# Altium integrated library Analog Devices Data Converters Digital-to-Analog Converters.IntLib: 2231 symbols (part 140 of 181)
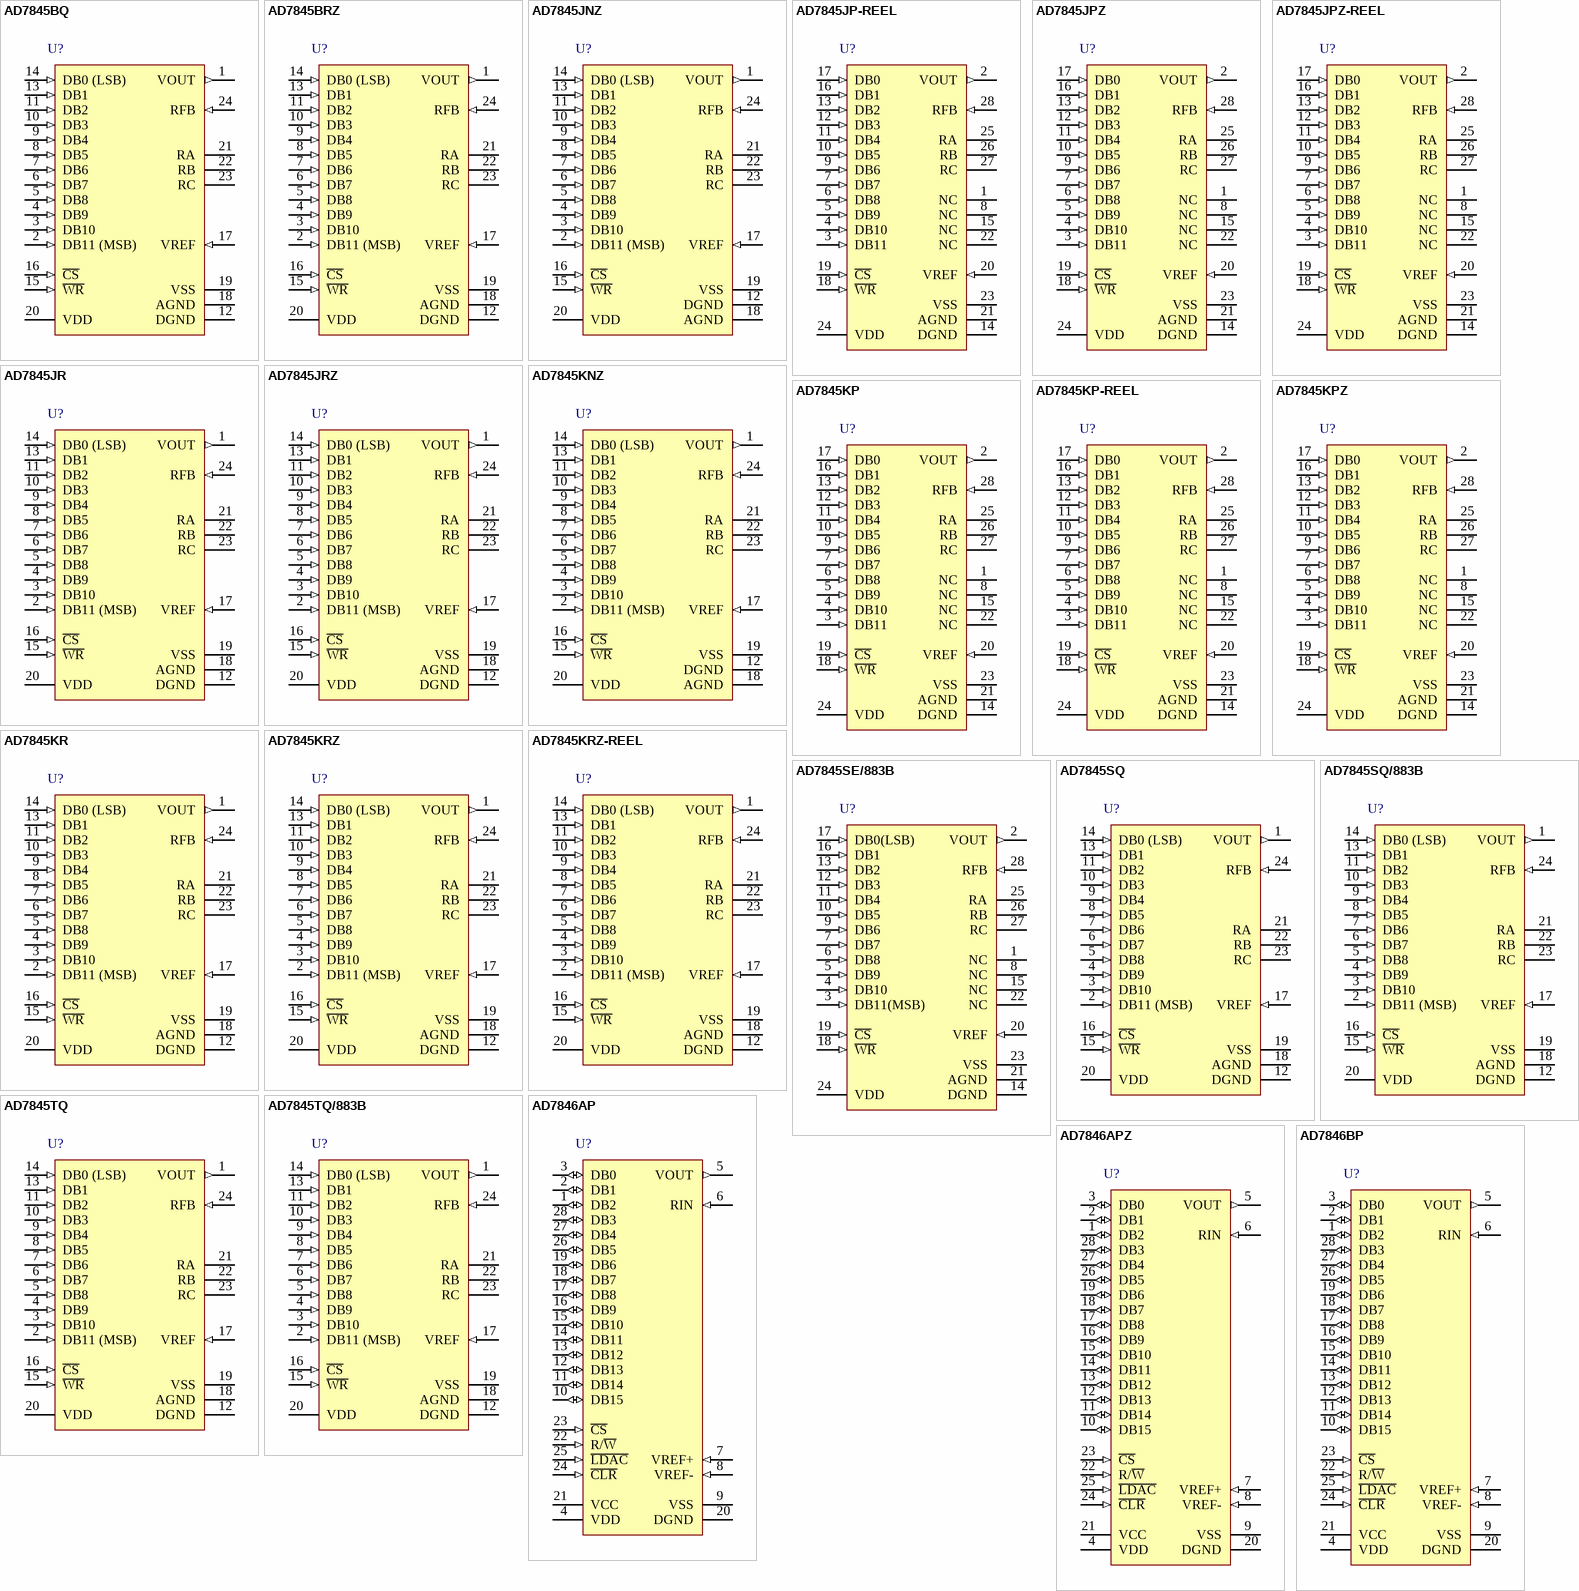
[diagram p253: symbols AD7845BQ to AD7846BP]

## AD7845JPZ
designator U?
Single 12-Bit LC2MOS Complete Digital-to-Analog Converter, 0 to +70 degC, P-28, Pb-Free, Tube; Generic Part Number: AD7845; Manufacturer: Analog Devices; PartNumber: AD7845JPZ; # DAC Outputs: 1; Max V+: 15.75V; Op Pwr Diss: 150mW; Resolution (Bits): 12; Settling Time: 5µs; Single Supply: No; DatasheetVersion: Rev.B; PackageVersion: 042508-A; PackageReference: P-28; PackageDescription: 28-Lead Plastic Leaded Chip Carrier [PLCC]; Supplier 1: Digi-Key; Supplier Part Number 1: AD7845JPZ-ND; Supplier 2: Newark; Supplier Part Number 2: 12M8951; Supplier 3: Mouser; Supplier Part Number 3: 584-AD7845JPZ; Packing: Tube; RoHS: Y; Mounting Technology: Surface Mount; Code_JEDEC: MO-047-AB; ComponentLink1Description: Manufacturer URL; ComponentLink1URL: http://www.analog.com/en/index.html; ComponentLink2Description: Datasheet; ComponentLink2URL: http://www.analog.com/static/imported-files/data_sheets/AD7845.pdf; ComponentLink3Description: Package Specification; ComponentLink3URL: http://www.analog.com/static/imported-files/packages/PKG_PDF/PLCC(P)/P_28.pdf; ComponentLink4Description: Product URL; ComponentLink4URL: http://www.analog.com/en/digital-to-analog-converters/da-converters/ad7845/products/product.html
footprint P-28_N (Leaded Chip Carrier, 28-Leads, Body 11.5x11.5mm, Pitch 1.27mm, IPC Medium Density)
footprint P-28_L (Leaded Chip Carrier, 28-Leads, Body 11.5x11.5mm, Pitch 1.27mm, IPC High Density)
footprint P-28_M (Leaded Chip Carrier, 28-Leads, Body 11.5x11.5mm, Pitch 1.27mm, IPC Low Density)
pins: 1 NC "No Connect", 2 VOUT (out) "Voltage Output Terminal", 3 DB11 (in) "Data Bit 11 (MSB)", 4 DB10 (in) "Data Bit 10", 5 DB9 (in) "Data Bit 9", 6 DB8 (in) "Data Bit 8", 7 DB7 (in) "Data Bit 7", 8 NC "No Connect", 9 DB6 (in) "Data Bit 6", 10 DB5 (in) "Data Bit 5", 11 DB4 (in) "Data Bit 4", 12 DB3 (in) "Data Bit 3", 13 DB2 (in) "Data Bit 2", 14 DGND (power) "Digital Ground. The metal lid on the ceramic package is connected to this pin", 15 NC "No Connect", 16 DB1 (in) "Data Bit 1", 17 DB0 (in) "Data Bit 0 (LSB)", 18 ~{WR} (in) "Write Input. Active low", 19 ~{CS} (in) "Chip Select Input. Active low", 20 VREF (in) "Reference Input Voltage which can be an ac or dc signal", 21 AGND (power) "Analog Ground. This is the reference point for external analog circuitry", 22 NC "No Connect", 23 VSS (power) "Negative power supply for the output amplifier (nominal -12 V to +15 V)", 24 VDD (power) "Positive power supply (nominal +12 V to +15 V)", 25 RA "Application resistor. RA = 4 RFB", 26 RB "Application resistor. RB = 2 RFB", 27 RC "Application resistor. RC = 2 RFB", 28 RFB (in) "Feedback resistor in the DAC. For normal operation this is connected to VOUT"

## AD7845JPZ-REEL
designator U?
Single 12-Bit LC2MOS Complete Digital-to-Analog Converter, 0 to +70 degC, P-28, Pb-Free, Reel; Generic Part Number: AD7845; Manufacturer: Analog Devices; PartNumber: AD7845JPZ-REEL; # DAC Outputs: 1; Max V+: 15.75V; Op Pwr Diss: 150mW; Resolution (Bits): 12; Settling Time: 5µs; Single Supply: No; DatasheetVersion: Rev.B; PackageVersion: 042508-A; PackageReference: P-28; PackageDescription: 28-Lead Plastic Leaded Chip Carrier [PLCC]; Supplier 1: Digi-Key; Supplier Part Number 1: AD7845JPZ-REEL-ND; Supplier 2: Newark; Supplier Part Number 2: 12M8952; Supplier 3: Mouser; Supplier Part Number 3: 584-AD7845JPZ-R; Packing: Reel; RoHS: Y; Mounting Technology: Surface Mount; Code_JEDEC: MO-047-AB; ComponentLink1Description: Manufacturer URL; ComponentLink1URL: http://www.analog.com/en/index.html; ComponentLink2Description: Datasheet; ComponentLink2URL: http://www.analog.com/static/imported-files/data_sheets/AD7845.pdf; ComponentLink3Description: Package Specification; ComponentLink3URL: http://www.analog.com/static/imported-files/packages/PKG_PDF/PLCC(P)/P_28.pdf; ComponentLink4Description: Product URL; ComponentLink4URL: http://www.analog.com/en/digital-to-analog-converters/da-converters/ad7845/products/product.html
footprint P-28_N (Leaded Chip Carrier, 28-Leads, Body 11.5x11.5mm, Pitch 1.27mm, IPC Medium Density)
footprint P-28_L (Leaded Chip Carrier, 28-Leads, Body 11.5x11.5mm, Pitch 1.27mm, IPC High Density)
footprint P-28_M (Leaded Chip Carrier, 28-Leads, Body 11.5x11.5mm, Pitch 1.27mm, IPC Low Density)
pins: 1 NC "No Connect", 2 VOUT (out) "Voltage Output Terminal", 3 DB11 (in) "Data Bit 11 (MSB)", 4 DB10 (in) "Data Bit 10", 5 DB9 (in) "Data Bit 9", 6 DB8 (in) "Data Bit 8", 7 DB7 (in) "Data Bit 7", 8 NC "No Connect", 9 DB6 (in) "Data Bit 6", 10 DB5 (in) "Data Bit 5", 11 DB4 (in) "Data Bit 4", 12 DB3 (in) "Data Bit 3", 13 DB2 (in) "Data Bit 2", 14 DGND (power) "Digital Ground. The metal lid on the ceramic package is connected to this pin", 15 NC "No Connect", 16 DB1 (in) "Data Bit 1", 17 DB0 (in) "Data Bit 0 (LSB)", 18 ~{WR} (in) "Write Input. Active low", 19 ~{CS} (in) "Chip Select Input. Active low", 20 VREF (in) "Reference Input Voltage which can be an ac or dc signal", 21 AGND (power) "Analog Ground. This is the reference point for external analog circuitry", 22 NC "No Connect", 23 VSS (power) "Negative power supply for the output amplifier (nominal -12 V to +15 V)", 24 VDD (power) "Positive power supply (nominal +12 V to +15 V)", 25 RA "Application resistor. RA = 4 RFB", 26 RB "Application resistor. RB = 2 RFB", 27 RC "Application resistor. RC = 2 RFB", 28 RFB (in) "Feedback resistor in the DAC. For normal operation this is connected to VOUT"

## AD7845JR
designator U?
Single 12-Bit LC2MOS Complete Digital-to-Analog Converter, 0 to +70 degC, RW-24, Tube; Generic Part Number: AD7845; Manufacturer: Analog Devices; PartNumber: AD7845JR; # DAC Outputs: 1; Max V+: 15.75V; Op Pwr Diss: 150mW; Resolution (Bits): 12; Settling Time: 5µs; Single Supply: No; DatasheetVersion: Rev.B; PackageVersion: 060706-A; PackageReference: RW-24; PackageDescription: 24-Lead Standard Small Outline Package [SOIC_W]; Supplier 1: Digi-Key; Supplier Part Number 1: AD7845JR-ND; Supplier 2: Mouser; Supplier Part Number 2: 584-AD7845JR; Packing: Tube; RoHS: N; Mounting Technology: Surface Mount; Code_JEDEC: MS-013-AD; ComponentLink1Description: Manufacturer URL; ComponentLink1URL: http://www.analog.com/en/index.html; ComponentLink2Description: Datasheet; ComponentLink2URL: http://www.analog.com/static/imported-files/data_sheets/AD7845.pdf; ComponentLink3Description: Package Specification; ComponentLink3URL: http://www.analog.com/static/imported-files/packages/33665150946139RW_24.pdf; ComponentLink4Description: Product URL; ComponentLink4URL: http://www.analog.com/en/digital-to-analog-converters/da-converters/ad7845/products/product.html
footprint RW-24_N (SOIC, 24-Leads, Body 15.4x7.5mm, Pitch 1.27mm, IPC Medium Density)
footprint RW-24_L (SOIC, 24-Leads, Body 15.4x7.5mm, Pitch 1.27mm, IPC High Density)
footprint RW-24_M (SOIC, 24-Leads, Body 15.4x7.5mm, Pitch 1.27mm, IPC Low Density)
pins: 1 VOUT (out) "Voltage Output Terminal", 2 DB11 (MSB) (in) "Data Bit 11 (MSB)", 3 DB10 (in) "Data Bit 10", 4 DB9 (in) "Data Bit 9", 5 DB8 (in) "Data Bit 8", 6 DB7 (in) "Data Bit 7", 7 DB6 (in) "Data Bit 6", 8 DB5 (in) "Data Bit 5", 9 DB4 (in) "Data Bit 4", 10 DB3 (in) "Data Bit 3", 11 DB2 (in) "Data Bit 2", 12 DGND (power) "Digital Ground. The metal lid on the ceramic package is connected to this pin", 13 DB1 (in) "Data Bit 1", 14 DB0 (LSB) (in) "Data Bit 0 (LSB)", 15 ~{WR} (in) "Write Input. Active low", 16 ~{CS} (in) "Chip Select Input. Active low", 17 VREF (in) "Reference Input Voltage which can be an ac or dc signal", 18 AGND (power) "Analog Ground. This is the reference point for external analog circuitry", 19 VSS (power) "Negative power supply for the output amplifier (nominal -12 V to +15 V)", 20 VDD (power) "Positive power supply (nominal +12 V to +15 V)", 21 RA "Application resistor. RA = 4 RFB", 22 RB "Application resistor. RB = 2 RFB", 23 RC "Application resistor. RC = 2 RFB", 24 RFB (in) "Feedback resistor in the DAC. For normal operation this is connected to VOUT"

## AD7845JRZ
designator U?
Single 12-Bit LC2MOS Complete Digital-to-Analog Converter, 0 to +70 degC, RW-24, Pb-Free, Tube; Generic Part Number: AD7845; Manufacturer: Analog Devices; PartNumber: AD7845JRZ; # DAC Outputs: 1; Max V+: 15.75V; Op Pwr Diss: 150mW; Resolution (Bits): 12; Settling Time: 5µs; Single Supply: No; DatasheetVersion: Rev.B; PackageVersion: 060706-A; PackageReference: RW-24; PackageDescription: 24-Lead Standard Small Outline Package [SOIC_W]; Supplier 1: Digi-Key; Supplier Part Number 1: AD7845JRZ-ND; Supplier 2: Newark; Supplier Part Number 2: 59K5652; Supplier 3: Mouser; Supplier Part Number 3: 584-AD7845JRZ; Packing: Tube; RoHS: Y; Mounting Technology: Surface Mount; Code_JEDEC: MS-013-AD; ComponentLink1Description: Manufacturer URL; ComponentLink1URL: http://www.analog.com/en/index.html; ComponentLink2Description: Datasheet; ComponentLink2URL: http://www.analog.com/static/imported-files/data_sheets/AD7845.pdf; ComponentLink3Description: Package Specification; ComponentLink3URL: http://www.analog.com/static/imported-files/packages/33665150946139RW_24.pdf; ComponentLink4Description: Product URL; ComponentLink4URL: http://www.analog.com/en/digital-to-analog-converters/da-converters/ad7845/products/product.html
footprint RW-24_N (SOIC, 24-Leads, Body 15.4x7.5mm, Pitch 1.27mm, IPC Medium Density)
footprint RW-24_L (SOIC, 24-Leads, Body 15.4x7.5mm, Pitch 1.27mm, IPC High Density)
footprint RW-24_M (SOIC, 24-Leads, Body 15.4x7.5mm, Pitch 1.27mm, IPC Low Density)
pins: 1 VOUT (out) "Voltage Output Terminal", 2 DB11 (MSB) (in) "Data Bit 11 (MSB)", 3 DB10 (in) "Data Bit 10", 4 DB9 (in) "Data Bit 9", 5 DB8 (in) "Data Bit 8", 6 DB7 (in) "Data Bit 7", 7 DB6 (in) "Data Bit 6", 8 DB5 (in) "Data Bit 5", 9 DB4 (in) "Data Bit 4", 10 DB3 (in) "Data Bit 3", 11 DB2 (in) "Data Bit 2", 12 DGND (power) "Digital Ground. The metal lid on the ceramic package is connected to this pin", 13 DB1 (in) "Data Bit 1", 14 DB0 (LSB) (in) "Data Bit 0 (LSB)", 15 ~{WR} (in) "Write Input. Active low", 16 ~{CS} (in) "Chip Select Input. Active low", 17 VREF (in) "Reference Input Voltage which can be an ac or dc signal", 18 AGND (power) "Analog Ground. This is the reference point for external analog circuitry", 19 VSS (power) "Negative power supply for the output amplifier (nominal -12 V to +15 V)", 20 VDD (power) "Positive power supply (nominal +12 V to +15 V)", 21 RA "Application resistor. RA = 4 RFB", 22 RB "Application resistor. RB = 2 RFB", 23 RC "Application resistor. RC = 2 RFB", 24 RFB (in) "Feedback resistor in the DAC. For normal operation this is connected to VOUT"

## AD7845KNZ
designator U?
Single 12-Bit LC2MOS Complete Digital-to-Analog Converter, 0 to +70 degC, N-24-1, Pb-Free, Tube; Generic Part Number: AD7845; Manufacturer: Analog Devices; PartNumber: AD7845KNZ; # DAC Outputs: 1; Max V+: 15.75V; Op Pwr Diss: 150mW; Resolution (Bits): 12; Settling Time: 5µs; Single Supply: No; DatasheetVersion: Rev.B; PackageVersion: 071006-A; PackageReference: N-24-1; PackageDescription: 24-Lead Plastic Dual In-Line Package [PDIP] Narrow Body; Supplier 1: Digi-Key; Supplier Part Number 1: AD7845KNZ-ND; Supplier 2: Mouser; Supplier Part Number 2: 584-AD7845KNZ; Packing: Tube; RoHS: Y; Mounting Technology: Through Hole; Code_JEDEC: MS-001; ComponentLink1Description: Manufacturer URL; ComponentLink1URL: http://www.analog.com/en/index.html; ComponentLink2Description: Datasheet; ComponentLink2URL: http://www.analog.com/static/imported-files/data_sheets/AD7845.pdf; ComponentLink3Description: Package Specification; ComponentLink3URL: http://www.analog.com/static/imported-files/packages/50726455539629N_24_1.pdf; ComponentLink4Description: Product URL; ComponentLink4URL: http://www.analog.com/en/digital-to-analog-converters/da-converters/ad7845/products/product.html
footprint N-24-1 (DIP, 24-Leads, Row Spacing 7.62mm, Pitch 2.54mm, Body 31.9x6.6mm)
pins: 1 VOUT (out) "Voltage Output Terminal", 2 DB11 (MSB) (in) "Data Bit 11 (MSB)", 3 DB10 (in) "Data Bit 10", 4 DB9 (in) "Data Bit 9", 5 DB8 (in) "Data Bit 8", 6 DB7 (in) "Data Bit 7", 7 DB6 (in) "Data Bit 6", 8 DB5 (in) "Data Bit 5", 9 DB4 (in) "Data Bit 4", 10 DB3 (in) "Data Bit 3", 11 DB2 (in) "Data Bit 2", 12 DGND (power) "Digital Ground. The metal lid on the ceramic package is connected to this pin", 13 DB1 (in) "Data Bit 1", 14 DB0 (LSB) (in) "Data Bit 0 (LSB)", 15 ~{WR} (in) "Write Input. Active low", 16 ~{CS} (in) "Chip Select Input. Active low", 17 VREF (in) "Reference Input Voltage which can be an ac or dc signal", 18 AGND (power) "Analog Ground. This is the reference point for external analog circuitry", 19 VSS (power) "Negative power supply for the output amplifier (nominal -12 V to +15 V)", 20 VDD (power) "Positive power supply (nominal +12 V to +15 V)", 21 RA "Application resistor. RA = 4 RFB", 22 RB "Application resistor. RB = 2 RFB", 23 RC "Application resistor. RC = 2 RFB", 24 RFB (in) "Feedback resistor in the DAC. For normal operation this is connected to VOUT"

## AD7845KP
designator U?
Single 12-Bit LC2MOS Complete Digital-to-Analog Converter, 0 to +70 degC, P-28, Tube; Generic Part Number: AD7845; Manufacturer: Analog Devices; PartNumber: AD7845KP; # DAC Outputs: 1; Max V+: 15.75V; Op Pwr Diss: 150mW; Resolution (Bits): 12; Settling Time: 5µs; Single Supply: No; DatasheetVersion: Rev.B; PackageVersion: 042508-A; PackageReference: P-28; PackageDescription: 28-Lead Plastic Leaded Chip Carrier [PLCC]; Supplier 1: Digi-Key; Supplier Part Number 1: AD7845KP-ND; Supplier 2: Newark; Supplier Part Number 2: 66F4924; Supplier 3: Mouser; Supplier Part Number 3: N/A; Packing: Tube; RoHS: N; Mounting Technology: Surface Mount; Code_JEDEC: MO-047-AB; ComponentLink1Description: Manufacturer URL; ComponentLink1URL: http://www.analog.com/en/index.html; ComponentLink2Description: Datasheet; ComponentLink2URL: http://www.analog.com/static/imported-files/data_sheets/AD7845.pdf; ComponentLink3Description: Package Specification; ComponentLink3URL: http://www.analog.com/static/imported-files/packages/PKG_PDF/PLCC(P)/P_28.pdf; ComponentLink4Description: Product URL; ComponentLink4URL: http://www.analog.com/en/digital-to-analog-converters/da-converters/ad7845/products/product.html
footprint P-28_N (Leaded Chip Carrier, 28-Leads, Body 11.5x11.5mm, Pitch 1.27mm, IPC Medium Density)
footprint P-28_L (Leaded Chip Carrier, 28-Leads, Body 11.5x11.5mm, Pitch 1.27mm, IPC High Density)
footprint P-28_M (Leaded Chip Carrier, 28-Leads, Body 11.5x11.5mm, Pitch 1.27mm, IPC Low Density)
pins: 1 NC "No Connect", 2 VOUT (out) "Voltage Output Terminal", 3 DB11 (in) "Data Bit 11 (MSB)", 4 DB10 (in) "Data Bit 10", 5 DB9 (in) "Data Bit 9", 6 DB8 (in) "Data Bit 8", 7 DB7 (in) "Data Bit 7", 8 NC "No Connect", 9 DB6 (in) "Data Bit 6", 10 DB5 (in) "Data Bit 5", 11 DB4 (in) "Data Bit 4", 12 DB3 (in) "Data Bit 3", 13 DB2 (in) "Data Bit 2", 14 DGND (power) "Digital Ground. The metal lid on the ceramic package is connected to this pin", 15 NC "No Connect", 16 DB1 (in) "Data Bit 1", 17 DB0 (in) "Data Bit 0 (LSB)", 18 ~{WR} (in) "Write Input. Active low", 19 ~{CS} (in) "Chip Select Input. Active low", 20 VREF (in) "Reference Input Voltage which can be an ac or dc signal", 21 AGND (power) "Analog Ground. This is the reference point for external analog circuitry", 22 NC "No Connect", 23 VSS (power) "Negative power supply for the output amplifier (nominal -12 V to +15 V)", 24 VDD (power) "Positive power supply (nominal +12 V to +15 V)", 25 RA "Application resistor. RA = 4 RFB", 26 RB "Application resistor. RB = 2 RFB", 27 RC "Application resistor. RC = 2 RFB", 28 RFB (in) "Feedback resistor in the DAC. For normal operation this is connected to VOUT"

## AD7845KP-REEL
designator U?
Single 12-Bit LC2MOS Complete Digital-to-Analog Converter, 0 to +70 degC, P-28, Reel; Generic Part Number: AD7845; Manufacturer: Analog Devices; PartNumber: AD7845KP-REEL; # DAC Outputs: 1; Max V+: 15.75V; Op Pwr Diss: 150mW; Resolution (Bits): 12; Settling Time: 5µs; Single Supply: No; DatasheetVersion: Rev.B; PackageVersion: 042508-A; PackageReference: P-28; PackageDescription: 28-Lead Plastic Leaded Chip Carrier [PLCC]; Supplier 1: Mouser; Supplier Part Number 1: N/A; Packing: Reel; RoHS: N; Mounting Technology: Surface Mount; Code_JEDEC: MO-047-AB; ComponentLink1Description: Manufacturer URL; ComponentLink1URL: http://www.analog.com/en/index.html; ComponentLink2Description: Datasheet; ComponentLink2URL: http://www.analog.com/static/imported-files/data_sheets/AD7845.pdf; ComponentLink3Description: Package Specification; ComponentLink3URL: http://www.analog.com/static/imported-files/packages/PKG_PDF/PLCC(P)/P_28.pdf; ComponentLink4Description: Product URL; ComponentLink4URL: http://www.analog.com/en/digital-to-analog-converters/da-converters/ad7845/products/product.html
footprint P-28_N (Leaded Chip Carrier, 28-Leads, Body 11.5x11.5mm, Pitch 1.27mm, IPC Medium Density)
footprint P-28_L (Leaded Chip Carrier, 28-Leads, Body 11.5x11.5mm, Pitch 1.27mm, IPC High Density)
footprint P-28_M (Leaded Chip Carrier, 28-Leads, Body 11.5x11.5mm, Pitch 1.27mm, IPC Low Density)
pins: 1 NC "No Connect", 2 VOUT (out) "Voltage Output Terminal", 3 DB11 (in) "Data Bit 11 (MSB)", 4 DB10 (in) "Data Bit 10", 5 DB9 (in) "Data Bit 9", 6 DB8 (in) "Data Bit 8", 7 DB7 (in) "Data Bit 7", 8 NC "No Connect", 9 DB6 (in) "Data Bit 6", 10 DB5 (in) "Data Bit 5", 11 DB4 (in) "Data Bit 4", 12 DB3 (in) "Data Bit 3", 13 DB2 (in) "Data Bit 2", 14 DGND (power) "Digital Ground. The metal lid on the ceramic package is connected to this pin", 15 NC "No Connect", 16 DB1 (in) "Data Bit 1", 17 DB0 (in) "Data Bit 0 (LSB)", 18 ~{WR} (in) "Write Input. Active low", 19 ~{CS} (in) "Chip Select Input. Active low", 20 VREF (in) "Reference Input Voltage which can be an ac or dc signal", 21 AGND (power) "Analog Ground. This is the reference point for external analog circuitry", 22 NC "No Connect", 23 VSS (power) "Negative power supply for the output amplifier (nominal -12 V to +15 V)", 24 VDD (power) "Positive power supply (nominal +12 V to +15 V)", 25 RA "Application resistor. RA = 4 RFB", 26 RB "Application resistor. RB = 2 RFB", 27 RC "Application resistor. RC = 2 RFB", 28 RFB (in) "Feedback resistor in the DAC. For normal operation this is connected to VOUT"

## AD7845KPZ
designator U?
Single 12-Bit LC2MOS Complete Digital-to-Analog Converter, 0 to +70 degC, P-28, Pb-Free, Tube; Generic Part Number: AD7845; Manufacturer: Analog Devices; PartNumber: AD7845KPZ; # DAC Outputs: 1; Max V+: 15.75V; Op Pwr Diss: 150mW; Resolution (Bits): 12; Settling Time: 5µs; Single Supply: No; DatasheetVersion: Rev.B; PackageVersion: 042508-A; PackageReference: P-28; PackageDescription: 28-Lead Plastic Leaded Chip Carrier [PLCC]; Supplier 1: Digi-Key; Supplier Part Number 1: AD7845KPZ-ND; Supplier 2: Mouser; Supplier Part Number 2: 584-AD7845KPZ; Packing: Tube; RoHS: Y; Mounting Technology: Surface Mount; Code_JEDEC: MO-047-AB; ComponentLink1Description: Manufacturer URL; ComponentLink1URL: http://www.analog.com/en/index.html; ComponentLink2Description: Datasheet; ComponentLink2URL: http://www.analog.com/static/imported-files/data_sheets/AD7845.pdf; ComponentLink3Description: Package Specification; ComponentLink3URL: http://www.analog.com/static/imported-files/packages/PKG_PDF/PLCC(P)/P_28.pdf; ComponentLink4Description: Product URL; ComponentLink4URL: http://www.analog.com/en/digital-to-analog-converters/da-converters/ad7845/products/product.html
footprint P-28_N (Leaded Chip Carrier, 28-Leads, Body 11.5x11.5mm, Pitch 1.27mm, IPC Medium Density)
footprint P-28_L (Leaded Chip Carrier, 28-Leads, Body 11.5x11.5mm, Pitch 1.27mm, IPC High Density)
footprint P-28_M (Leaded Chip Carrier, 28-Leads, Body 11.5x11.5mm, Pitch 1.27mm, IPC Low Density)
pins: 1 NC "No Connect", 2 VOUT (out) "Voltage Output Terminal", 3 DB11 (in) "Data Bit 11 (MSB)", 4 DB10 (in) "Data Bit 10", 5 DB9 (in) "Data Bit 9", 6 DB8 (in) "Data Bit 8", 7 DB7 (in) "Data Bit 7", 8 NC "No Connect", 9 DB6 (in) "Data Bit 6", 10 DB5 (in) "Data Bit 5", 11 DB4 (in) "Data Bit 4", 12 DB3 (in) "Data Bit 3", 13 DB2 (in) "Data Bit 2", 14 DGND (power) "Digital Ground. The metal lid on the ceramic package is connected to this pin", 15 NC "No Connect", 16 DB1 (in) "Data Bit 1", 17 DB0 (in) "Data Bit 0 (LSB)", 18 ~{WR} (in) "Write Input. Active low", 19 ~{CS} (in) "Chip Select Input. Active low", 20 VREF (in) "Reference Input Voltage which can be an ac or dc signal", 21 AGND (power) "Analog Ground. This is the reference point for external analog circuitry", 22 NC "No Connect", 23 VSS (power) "Negative power supply for the output amplifier (nominal -12 V to +15 V)", 24 VDD (power) "Positive power supply (nominal +12 V to +15 V)", 25 RA "Application resistor. RA = 4 RFB", 26 RB "Application resistor. RB = 2 RFB", 27 RC "Application resistor. RC = 2 RFB", 28 RFB (in) "Feedback resistor in the DAC. For normal operation this is connected to VOUT"

## AD7845KR
designator U?
Single 12-Bit LC2MOS Complete Digital-to-Analog Converter, 0 to +70 degC, RW-24, Tube; Generic Part Number: AD7845; Manufacturer: Analog Devices; PartNumber: AD7845KR; # DAC Outputs: 1; Max V+: 15.75V; Op Pwr Diss: 150mW; Resolution (Bits): 12; Settling Time: 5µs; Single Supply: No; DatasheetVersion: Rev.B; PackageVersion: 060706-A; PackageReference: RW-24; PackageDescription: 24-Lead Standard Small Outline Package [SOIC_W]; Supplier 1: Digi-Key; Supplier Part Number 1: AD7845KR-ND; Supplier 2: Mouser; Supplier Part Number 2: 584-AD7845KR; Packing: Tube; RoHS: N; Mounting Technology: Surface Mount; Code_JEDEC: MS-013-AD; ComponentLink1Description: Manufacturer URL; ComponentLink1URL: http://www.analog.com/en/index.html; ComponentLink2Description: Datasheet; ComponentLink2URL: http://www.analog.com/static/imported-files/data_sheets/AD7845.pdf; ComponentLink3Description: Package Specification; ComponentLink3URL: http://www.analog.com/static/imported-files/packages/33665150946139RW_24.pdf; ComponentLink4Description: Product URL; ComponentLink4URL: http://www.analog.com/en/digital-to-analog-converters/da-converters/ad7845/products/product.html
footprint RW-24_N (SOIC, 24-Leads, Body 15.4x7.5mm, Pitch 1.27mm, IPC Medium Density)
footprint RW-24_L (SOIC, 24-Leads, Body 15.4x7.5mm, Pitch 1.27mm, IPC High Density)
footprint RW-24_M (SOIC, 24-Leads, Body 15.4x7.5mm, Pitch 1.27mm, IPC Low Density)
pins: 1 VOUT (out) "Voltage Output Terminal", 2 DB11 (MSB) (in) "Data Bit 11 (MSB)", 3 DB10 (in) "Data Bit 10", 4 DB9 (in) "Data Bit 9", 5 DB8 (in) "Data Bit 8", 6 DB7 (in) "Data Bit 7", 7 DB6 (in) "Data Bit 6", 8 DB5 (in) "Data Bit 5", 9 DB4 (in) "Data Bit 4", 10 DB3 (in) "Data Bit 3", 11 DB2 (in) "Data Bit 2", 12 DGND (power) "Digital Ground. The metal lid on the ceramic package is connected to this pin", 13 DB1 (in) "Data Bit 1", 14 DB0 (LSB) (in) "Data Bit 0 (LSB)", 15 ~{WR} (in) "Write Input. Active low", 16 ~{CS} (in) "Chip Select Input. Active low", 17 VREF (in) "Reference Input Voltage which can be an ac or dc signal", 18 AGND (power) "Analog Ground. This is the reference point for external analog circuitry", 19 VSS (power) "Negative power supply for the output amplifier (nominal -12 V to +15 V)", 20 VDD (power) "Positive power supply (nominal +12 V to +15 V)", 21 RA "Application resistor. RA = 4 RFB", 22 RB "Application resistor. RB = 2 RFB", 23 RC "Application resistor. RC = 2 RFB", 24 RFB (in) "Feedback resistor in the DAC. For normal operation this is connected to VOUT"

## AD7845KRZ
designator U?
Single 12-Bit LC2MOS Complete Digital-to-Analog Converter, 0 to +70 degC, RW-24, Pb-Free, Tube; Generic Part Number: AD7845; Manufacturer: Analog Devices; PartNumber: AD7845KRZ; # DAC Outputs: 1; Max V+: 15.75V; Op Pwr Diss: 150mW; Resolution (Bits): 12; Settling Time: 5µs; Single Supply: No; DatasheetVersion: Rev.B; PackageVersion: 060706-A; PackageReference: RW-24; PackageDescription: 24-Lead Standard Small Outline Package [SOIC_W]; Supplier 1: Digi-Key; Supplier Part Number 1: AD7845KRZ-ND; Supplier 2: Mouser; Supplier Part Number 2: 584-AD7845KRZ; Packing: Tube; RoHS: Y; Mounting Technology: Surface Mount; Code_JEDEC: MS-013-AD; ComponentLink1Description: Manufacturer URL; ComponentLink1URL: http://www.analog.com/en/index.html; ComponentLink2Description: Datasheet; ComponentLink2URL: http://www.analog.com/static/imported-files/data_sheets/AD7845.pdf; ComponentLink3Description: Package Specification; ComponentLink3URL: http://www.analog.com/static/imported-files/packages/33665150946139RW_24.pdf; ComponentLink4Description: Product URL; ComponentLink4URL: http://www.analog.com/en/digital-to-analog-converters/da-converters/ad7845/products/product.html
footprint RW-24_N (SOIC, 24-Leads, Body 15.4x7.5mm, Pitch 1.27mm, IPC Medium Density)
footprint RW-24_L (SOIC, 24-Leads, Body 15.4x7.5mm, Pitch 1.27mm, IPC High Density)
footprint RW-24_M (SOIC, 24-Leads, Body 15.4x7.5mm, Pitch 1.27mm, IPC Low Density)
pins: 1 VOUT (out) "Voltage Output Terminal", 2 DB11 (MSB) (in) "Data Bit 11 (MSB)", 3 DB10 (in) "Data Bit 10", 4 DB9 (in) "Data Bit 9", 5 DB8 (in) "Data Bit 8", 6 DB7 (in) "Data Bit 7", 7 DB6 (in) "Data Bit 6", 8 DB5 (in) "Data Bit 5", 9 DB4 (in) "Data Bit 4", 10 DB3 (in) "Data Bit 3", 11 DB2 (in) "Data Bit 2", 12 DGND (power) "Digital Ground. The metal lid on the ceramic package is connected to this pin", 13 DB1 (in) "Data Bit 1", 14 DB0 (LSB) (in) "Data Bit 0 (LSB)", 15 ~{WR} (in) "Write Input. Active low", 16 ~{CS} (in) "Chip Select Input. Active low", 17 VREF (in) "Reference Input Voltage which can be an ac or dc signal", 18 AGND (power) "Analog Ground. This is the reference point for external analog circuitry", 19 VSS (power) "Negative power supply for the output amplifier (nominal -12 V to +15 V)", 20 VDD (power) "Positive power supply (nominal +12 V to +15 V)", 21 RA "Application resistor. RA = 4 RFB", 22 RB "Application resistor. RB = 2 RFB", 23 RC "Application resistor. RC = 2 RFB", 24 RFB (in) "Feedback resistor in the DAC. For normal operation this is connected to VOUT"

## AD7845KRZ-REEL
designator U?
Single 12-Bit LC2MOS Complete Digital-to-Analog Converter, 0 to +70 degC, RW-24, Pb-Free, Reel; Generic Part Number: AD7845; Manufacturer: Analog Devices; PartNumber: AD7845KRZ-REEL; # DAC Outputs: 1; Max V+: 15.75V; Op Pwr Diss: 150mW; Resolution (Bits): 12; Settling Time: 5µs; Single Supply: No; DatasheetVersion: Rev.B; PackageVersion: 060706-A; PackageReference: RW-24; PackageDescription: 24-Lead Standard Small Outline Package [SOIC_W]; Supplier 1: Digi-Key; Supplier Part Number 1: AD7845KRZ-REEL-ND; Supplier 2: Mouser; Supplier Part Number 2: 584-AD7845KRZ-R; Packing: Reel; RoHS: Y; Mounting Technology: Surface Mount; Code_JEDEC: MS-013-AD; ComponentLink1Description: Manufacturer URL; ComponentLink1URL: http://www.analog.com/en/index.html; ComponentLink2Description: Datasheet; ComponentLink2URL: http://www.analog.com/static/imported-files/data_sheets/AD7845.pdf; ComponentLink3Description: Package Specification; ComponentLink3URL: http://www.analog.com/static/imported-files/packages/33665150946139RW_24.pdf; ComponentLink4Description: Product URL; ComponentLink4URL: http://www.analog.com/en/digital-to-analog-converters/da-converters/ad7845/products/product.html
footprint RW-24_N (SOIC, 24-Leads, Body 15.4x7.5mm, Pitch 1.27mm, IPC Medium Density)
footprint RW-24_L (SOIC, 24-Leads, Body 15.4x7.5mm, Pitch 1.27mm, IPC High Density)
footprint RW-24_M (SOIC, 24-Leads, Body 15.4x7.5mm, Pitch 1.27mm, IPC Low Density)
pins: 1 VOUT (out) "Voltage Output Terminal", 2 DB11 (MSB) (in) "Data Bit 11 (MSB)", 3 DB10 (in) "Data Bit 10", 4 DB9 (in) "Data Bit 9", 5 DB8 (in) "Data Bit 8", 6 DB7 (in) "Data Bit 7", 7 DB6 (in) "Data Bit 6", 8 DB5 (in) "Data Bit 5", 9 DB4 (in) "Data Bit 4", 10 DB3 (in) "Data Bit 3", 11 DB2 (in) "Data Bit 2", 12 DGND (power) "Digital Ground. The metal lid on the ceramic package is connected to this pin", 13 DB1 (in) "Data Bit 1", 14 DB0 (LSB) (in) "Data Bit 0 (LSB)", 15 ~{WR} (in) "Write Input. Active low", 16 ~{CS} (in) "Chip Select Input. Active low", 17 VREF (in) "Reference Input Voltage which can be an ac or dc signal", 18 AGND (power) "Analog Ground. This is the reference point for external analog circuitry", 19 VSS (power) "Negative power supply for the output amplifier (nominal -12 V to +15 V)", 20 VDD (power) "Positive power supply (nominal +12 V to +15 V)", 21 RA "Application resistor. RA = 4 RFB", 22 RB "Application resistor. RB = 2 RFB", 23 RC "Application resistor. RC = 2 RFB", 24 RFB (in) "Feedback resistor in the DAC. For normal operation this is connected to VOUT"

## AD7845SE/883B
designator U?
Single 12-Bit LC2MOS Complete Digital-to-Analog Converter, -55 to +125 degC, E-28-1, Tube; Generic Part Number: AD7845; Manufacturer: Analog Devices; PartNumber: AD7845SE/883B; # DAC Outputs: 1; Max V+: 15.75V; Op Pwr Diss: 150mW; Resolution (Bits): 12; Settling Time: 5µs; Single Supply: No; DatasheetVersion: Rev.B; PackageVersion: 022106-A; PackageReference: E-28-1; PackageDescription: 28-Terminal Ceramic Leadless Chip Carrier [LCC]; Supplier 1: Mouser; Supplier Part Number 1: 584-AD7845SE883B; Packing: Tube; RoHS: N; Mounting Technology: Surface Mount; ComponentLink1Description: Manufacturer URL; ComponentLink1URL: http://www.analog.com/en/index.html; ComponentLink2Description: Datasheet; ComponentLink2URL: http://www.analog.com/static/imported-files/data_sheets/AD7845.pdf; ComponentLink3Description: Package Specification; ComponentLink3URL: http://www.analog.com/static/imported-files/packages/PKG_PDF/LCC(E)/E_28_1.pdf; ComponentLink4Description: Product URL; ComponentLink4URL: http://www.analog.com/en/digital-to-analog-converters/da-converters/ad7845/products/product.html
footprint E-28-1_N (Leadless Chip Carrier, 28-Leads, Body 11.4x11.4mm, Pitch 1.27mm, IPC Medium Density)
footprint E-28-1_L (Leadless Chip Carrier, 28-Leads, Body 11.4x11.4mm, Pitch 1.27mm, IPC High Density)
footprint E-28-1_M (Leadless Chip Carrier, 28-Leads, Body 11.4x11.4mm, Pitch 1.27mm, IPC Low Density)
pins: 1 NC, 2 VOUT (out), 3 DB11(MSB) (in), 4 DB10 (in), 5 DB9 (in), 6 DB8 (in), 7 DB7 (in), 8 NC, 9 DB6 (in), 10 DB5 (in), 11 DB4 (in), 12 DB3 (in), 13 DB2 (in), 14 DGND (power), 15 NC, 16 DB1 (in), 17 DB0(LSB) (in), 18 ~{WR} (in), 19 ~{CS} (in), 20 VREF (in), 21 AGND (power), 22 NC, 23 VSS (power), 24 VDD (power), 25 RA, 26 RB, 27 RC, 28 RFB (in)

## AD7845SQ
designator U?
Single 12-Bit LC2MOS Complete Digital-to-Analog Converter, -55 to +125 degC, Q-24-1, Tube; Generic Part Number: AD7845; Manufacturer: Analog Devices; PartNumber: AD7845SQ; # DAC Outputs: 1; Max V+: 15.75V; Op Pwr Diss: 150mW; Resolution (Bits): 12; Settling Time: 5µs; Single Supply: No; DatasheetVersion: Rev.B; PackageVersion: 100808-A; PackageReference: Q-24-1; PackageDescription: 24-Lead Ceramic Dual In-Line Package [CERDIP]; Supplier 1: Digi-Key; Supplier Part Number 1: AD7845SQ-ND; Supplier 2: Newark; Supplier Part Number 2: 66F4926; Supplier 3: Mouser; Supplier Part Number 3: 584-AD7845SQ; Packing: Tube; RoHS: N; Mounting Technology: Through Hole; ComponentLink1Description: Manufacturer URL; ComponentLink1URL: http://www.analog.com/en/index.html; ComponentLink2Description: Datasheet; ComponentLink2URL: http://www.analog.com/static/imported-files/data_sheets/AD7845.pdf; ComponentLink3Description: Package Specification; ComponentLink3URL: http://www.analog.com/static/imported-files/packages/PKG_PDF/CERDIP(Q)/Q_24_1.pdf; ComponentLink4Description: Product URL; ComponentLink4URL: http://www.analog.com/en/digital-to-analog-converters/da-converters/ad7845/products/product.html
footprint Q-24-1 (DIP, 24-Leads, Row Spacing 7.62mm, Pitch 2.54mm, Body 31.9x6.7mm)
pins: 1 VOUT (out) "Voltage Output Terminal", 2 DB11 (MSB) (in) "Data Bit 11 (MSB)", 3 DB10 (in) "Data Bit 10", 4 DB9 (in) "Data Bit 9", 5 DB8 (in) "Data Bit 8", 6 DB7 (in) "Data Bit 7", 7 DB6 (in) "Data Bit 6", 8 DB5 (in) "Data Bit 5", 9 DB4 (in) "Data Bit 4", 10 DB3 (in) "Data Bit 3", 11 DB2 (in) "Data Bit 2", 12 DGND (power) "Digital Ground. The metal lid on the ceramic package is connected to this pin", 13 DB1 (in) "Data Bit 1", 14 DB0 (LSB) (in) "Data Bit 0 (LSB)", 15 ~{WR} (in) "Write Input. Active low", 16 ~{CS} (in) "Chip Select Input. Active low", 17 VREF (in) "Reference Input Voltage which can be an ac or dc signal", 18 AGND (power) "Analog Ground. This is the reference point for external analog circuitry", 19 VSS (power) "Negative power supply for the output amplifier (nominal -12 V to +15 V)", 20 VDD (power) "Positive power supply (nominal +12 V to +15 V)", 21 RA "Application resistor. RA = 4 RFB", 22 RB "Application resistor. RB = 2 RFB", 23 RC "Application resistor. RC = 2 RFB", 24 RFB (in) "Feedback resistor in the DAC. For normal operation this is connected to VOUT"

## AD7845SQ/883B
designator U?
Single 12-Bit LC2MOS Complete Digital-to-Analog Converter, -55 to +125 degC, Q-24-1, Tube; Generic Part Number: AD7845; Manufacturer: Analog Devices; PartNumber: AD7845SQ/883B; # DAC Outputs: 1; Max V+: 15.75V; Op Pwr Diss: 150mW; Resolution (Bits): 12; Settling Time: 5µs; Single Supply: No; DatasheetVersion: Rev.B; PackageVersion: 100808-A; PackageReference: Q-24-1; PackageDescription: 24-Lead Ceramic Dual In-Line Package [CERDIP]; Supplier 1: Mouser; Supplier Part Number 1: 584-AD7845SQ883B; Packing: Tube; RoHS: N; Mounting Technology: Through Hole; ComponentLink1Description: Manufacturer URL; ComponentLink1URL: http://www.analog.com/en/index.html; ComponentLink2Description: Datasheet; ComponentLink2URL: http://www.analog.com/static/imported-files/data_sheets/AD7845.pdf; ComponentLink3Description: Package Specification; ComponentLink3URL: http://www.analog.com/static/imported-files/packages/PKG_PDF/CERDIP(Q)/Q_24_1.pdf; ComponentLink4Description: Product URL; ComponentLink4URL: http://www.analog.com/en/digital-to-analog-converters/da-converters/ad7845/products/product.html
footprint Q-24-1 (DIP, 24-Leads, Row Spacing 7.62mm, Pitch 2.54mm, Body 31.9x6.7mm)
pins: 1 VOUT (out) "Voltage Output Terminal", 2 DB11 (MSB) (in) "Data Bit 11 (MSB)", 3 DB10 (in) "Data Bit 10", 4 DB9 (in) "Data Bit 9", 5 DB8 (in) "Data Bit 8", 6 DB7 (in) "Data Bit 7", 7 DB6 (in) "Data Bit 6", 8 DB5 (in) "Data Bit 5", 9 DB4 (in) "Data Bit 4", 10 DB3 (in) "Data Bit 3", 11 DB2 (in) "Data Bit 2", 12 DGND (power) "Digital Ground. The metal lid on the ceramic package is connected to this pin", 13 DB1 (in) "Data Bit 1", 14 DB0 (LSB) (in) "Data Bit 0 (LSB)", 15 ~{WR} (in) "Write Input. Active low", 16 ~{CS} (in) "Chip Select Input. Active low", 17 VREF (in) "Reference Input Voltage which can be an ac or dc signal", 18 AGND (power) "Analog Ground. This is the reference point for external analog circuitry", 19 VSS (power) "Negative power supply for the output amplifier (nominal -12 V to +15 V)", 20 VDD (power) "Positive power supply (nominal +12 V to +15 V)", 21 RA "Application resistor. RA = 4 RFB", 22 RB "Application resistor. RB = 2 RFB", 23 RC "Application resistor. RC = 2 RFB", 24 RFB (in) "Feedback resistor in the DAC. For normal operation this is connected to VOUT"

## AD7845TQ
designator U?
Single 12-Bit LC2MOS Complete Digital-to-Analog Converter, -55 to +125 degC, Q-24-1, Tube; Generic Part Number: AD7845; Manufacturer: Analog Devices; PartNumber: AD7845TQ; # DAC Outputs: 1; Max V+: 15.75V; Op Pwr Diss: 150mW; Resolution (Bits): 12; Settling Time: 5µs; Single Supply: No; DatasheetVersion: Rev.B; PackageVersion: 100808-A; PackageReference: Q-24-1; PackageDescription: 24-Lead Ceramic Dual In-Line Package [CERDIP]; Supplier 1: Digi-Key; Supplier Part Number 1: AD7845TQ-ND; Supplier 2: Mouser; Supplier Part Number 2: 584-AD7845TQ; Packing: Tube; RoHS: N; Mounting Technology: Through Hole; ComponentLink1Description: Manufacturer URL; ComponentLink1URL: http://www.analog.com/en/index.html; ComponentLink2Description: Datasheet; ComponentLink2URL: http://www.analog.com/static/imported-files/data_sheets/AD7845.pdf; ComponentLink3Description: Package Specification; ComponentLink3URL: http://www.analog.com/static/imported-files/packages/PKG_PDF/CERDIP(Q)/Q_24_1.pdf; ComponentLink4Description: Product URL; ComponentLink4URL: http://www.analog.com/en/digital-to-analog-converters/da-converters/ad7845/products/product.html
footprint Q-24-1 (DIP, 24-Leads, Row Spacing 7.62mm, Pitch 2.54mm, Body 31.9x6.7mm)
pins: 1 VOUT (out) "Voltage Output Terminal", 2 DB11 (MSB) (in) "Data Bit 11 (MSB)", 3 DB10 (in) "Data Bit 10", 4 DB9 (in) "Data Bit 9", 5 DB8 (in) "Data Bit 8", 6 DB7 (in) "Data Bit 7", 7 DB6 (in) "Data Bit 6", 8 DB5 (in) "Data Bit 5", 9 DB4 (in) "Data Bit 4", 10 DB3 (in) "Data Bit 3", 11 DB2 (in) "Data Bit 2", 12 DGND (power) "Digital Ground. The metal lid on the ceramic package is connected to this pin", 13 DB1 (in) "Data Bit 1", 14 DB0 (LSB) (in) "Data Bit 0 (LSB)", 15 ~{WR} (in) "Write Input. Active low", 16 ~{CS} (in) "Chip Select Input. Active low", 17 VREF (in) "Reference Input Voltage which can be an ac or dc signal", 18 AGND (power) "Analog Ground. This is the reference point for external analog circuitry", 19 VSS (power) "Negative power supply for the output amplifier (nominal -12 V to +15 V)", 20 VDD (power) "Positive power supply (nominal +12 V to +15 V)", 21 RA "Application resistor. RA = 4 RFB", 22 RB "Application resistor. RB = 2 RFB", 23 RC "Application resistor. RC = 2 RFB", 24 RFB (in) "Feedback resistor in the DAC. For normal operation this is connected to VOUT"

## AD7845TQ/883B
designator U?
Single 12-Bit LC2MOS Complete Digital-to-Analog Converter, -55 to +125 degC, Q-24-1, Tube; Generic Part Number: AD7845; Manufacturer: Analog Devices; PartNumber: AD7845TQ/883B; # DAC Outputs: 1; Max V+: 15.75V; Op Pwr Diss: 150mW; Resolution (Bits): 12; Settling Time: 5µs; Single Supply: No; DatasheetVersion: Rev.B; PackageVersion: 100808-A; PackageReference: Q-24-1; PackageDescription: 24-Lead Ceramic Dual In-Line Package [CERDIP]; Supplier 1: Mouser; Supplier Part Number 1: 584-AD7845TQ883B; Packing: Tube; RoHS: N; Mounting Technology: Through Hole; ComponentLink1Description: Manufacturer URL; ComponentLink1URL: http://www.analog.com/en/index.html; ComponentLink2Description: Datasheet; ComponentLink2URL: http://www.analog.com/static/imported-files/data_sheets/AD7845.pdf; ComponentLink3Description: Package Specification; ComponentLink3URL: http://www.analog.com/static/imported-files/packages/PKG_PDF/CERDIP(Q)/Q_24_1.pdf; ComponentLink4Description: Product URL; ComponentLink4URL: http://www.analog.com/en/digital-to-analog-converters/da-converters/ad7845/products/product.html
footprint Q-24-1 (DIP, 24-Leads, Row Spacing 7.62mm, Pitch 2.54mm, Body 31.9x6.7mm)
pins: 1 VOUT (out) "Voltage Output Terminal", 2 DB11 (MSB) (in) "Data Bit 11 (MSB)", 3 DB10 (in) "Data Bit 10", 4 DB9 (in) "Data Bit 9", 5 DB8 (in) "Data Bit 8", 6 DB7 (in) "Data Bit 7", 7 DB6 (in) "Data Bit 6", 8 DB5 (in) "Data Bit 5", 9 DB4 (in) "Data Bit 4", 10 DB3 (in) "Data Bit 3", 11 DB2 (in) "Data Bit 2", 12 DGND (power) "Digital Ground. The metal lid on the ceramic package is connected to this pin", 13 DB1 (in) "Data Bit 1", 14 DB0 (LSB) (in) "Data Bit 0 (LSB)", 15 ~{WR} (in) "Write Input. Active low", 16 ~{CS} (in) "Chip Select Input. Active low", 17 VREF (in) "Reference Input Voltage which can be an ac or dc signal", 18 AGND (power) "Analog Ground. This is the reference point for external analog circuitry", 19 VSS (power) "Negative power supply for the output amplifier (nominal -12 V to +15 V)", 20 VDD (power) "Positive power supply (nominal +12 V to +15 V)", 21 RA "Application resistor. RA = 4 RFB", 22 RB "Application resistor. RB = 2 RFB", 23 RC "Application resistor. RC = 2 RFB", 24 RFB (in) "Feedback resistor in the DAC. For normal operation this is connected to VOUT"

## AD7846AP
designator U?
Single 16-Bit LC2MOS Voltage Output Digital-to-Analog Converter, -40 to +85 degC, P-28, Tube; Generic Part Number: AD7846; Manufacturer: Analog Devices; PartNumber: AD7846AP; # DAC Outputs: 1; Max V+: 15.75V; Op Pwr Diss: 155mW; Resolution (Bits): 16; Settling Time: 7µs; Single Supply: No; DatasheetVersion: Rev.G; PackageVersion: 042508-A; PackageReference: P-28; PackageDescription: 28-Lead Plastic Leaded Chip Carrier [PLCC]; Supplier 1: Digi-Key; Supplier Part Number 1: AD7846AP-ND; Supplier 2: Mouser; Supplier Part Number 2: 584-AD7846AP; Packing: Tube; RoHS: N; Mounting Technology: Surface Mount; Code_JEDEC: MO-047-AB; ComponentLink1Description: Manufacturer URL; ComponentLink1URL: http://www.analog.com/en/index.html; ComponentLink2Description: Datasheet; ComponentLink2URL: http://www.analog.com/static/imported-files/data_sheets/AD7846.pdf; ComponentLink3Description: Package Specification; ComponentLink3URL: http://www.analog.com/static/imported-files/packages/PKG_PDF/PLCC(P)/P_28.pdf; ComponentLink4Description: Product URL; ComponentLink4URL: http://www.analog.com/en/digital-to-analog-converters/da-converters/ad7846/products/product.html
footprint P-28_N (Leaded Chip Carrier, 28-Leads, Body 11.5x11.5mm, Pitch 1.27mm, IPC Medium Density)
footprint P-28_L (Leaded Chip Carrier, 28-Leads, Body 11.5x11.5mm, Pitch 1.27mm, IPC High Density)
footprint P-28_M (Leaded Chip Carrier, 28-Leads, Body 11.5x11.5mm, Pitch 1.27mm, IPC Low Density)
pins: 1 DB2 (io) "Data I/O.", 2 DB1 (io) "Data I/O.", 3 DB0 (io) "DB0 is LSB.", 4 VDD (power) "Positive Supply for Analog Circuitry. This is +15 V nominal.", 5 VOUT (out) "DAC Output Voltage.", 6 RIN (in) "Input to Summing Resistor of DAC Output Amplifier. This is used to select output voltage ranges. See Table 6.", 7 VREF+ (in) "VREF+ Input. The DAC is specified for VREF+ = +5 V.", 8 VREF- (in) "VREF- Input. For unipolar operation connect VREF- to 0 V, and for bipolar operation connect it to -5 V. The device is specified for both conditions.", 9 VSS (power) "Negative Supply for the Analog Circuitry. This is -15 V nominal", 10 DB15 (io) "DB15 is MSB.", 11 DB14 (io) "Data I/O.", 12 DB13 (io) "Data I/O.", 13 DB12 (io) "Data I/O.", 14 DB11 (io) "Data I/O.", 15 DB10 (io) "Data I/O.", 16 DB9 (io) "Data I/O.", 17 DB8 (io) "Data I/O.", 18 DB7 (io) "Data I/O.", 19 DB6 (io) "Data I/O.", 20 DGND (power) "Ground for Digital Circuitry.", 21 VCC (power) "Positive Supply for Digital Circuitry. This is +5 V nominal.", 22 R/~{W} (in) "R/W\ Input. This pin can be used to load data to the DAC or to read back the DAC latch contents.", 23 ~{CS} (in) "Chip Select Input. This pin selects the device.", 24 ~{CLR} (in) "Clear Input. The DAC can be cleared to 000...000 or 100...000. See Table 7.", 25 ~{LDAC} (in) "Asynchronous Load Input to DAC.", 26 DB5 (io) "Data I/O.", 27 DB4 (io) "Data I/O.", 28 DB3 (io) "Data I/O."

## AD7846APZ
designator U?
Single 16-Bit LC2MOS Voltage Output Digital-to-Analog Converter, -40 to +85 degC, P-28, Pb-Free, Tube; Generic Part Number: AD7846; Manufacturer: Analog Devices; PartNumber: AD7846APZ; # DAC Outputs: 1; Max V+: 15.75V; Op Pwr Diss: 155mW; Resolution (Bits): 16; Settling Time: 7µs; Single Supply: No; DatasheetVersion: Rev.G; PackageVersion: 042508-A; PackageReference: P-28; PackageDescription: 28-Lead Plastic Leaded Chip Carrier [PLCC]; Supplier 1: Digi-Key; Supplier Part Number 1: AD7846APZ-ND; Supplier 2: Mouser; Supplier Part Number 2: 584-AD7846APZ; Packing: Tube; RoHS: Y; Mounting Technology: Surface Mount; Code_JEDEC: MO-047-AB; ComponentLink1Description: Manufacturer URL; ComponentLink1URL: http://www.analog.com/en/index.html; ComponentLink2Description: Datasheet; ComponentLink2URL: http://www.analog.com/static/imported-files/data_sheets/AD7846.pdf; ComponentLink3Description: Package Specification; ComponentLink3URL: http://www.analog.com/static/imported-files/packages/PKG_PDF/PLCC(P)/P_28.pdf; ComponentLink4Description: Product URL; ComponentLink4URL: http://www.analog.com/en/digital-to-analog-converters/da-converters/ad7846/products/product.html
footprint P-28_N (Leaded Chip Carrier, 28-Leads, Body 11.5x11.5mm, Pitch 1.27mm, IPC Medium Density)
footprint P-28_L (Leaded Chip Carrier, 28-Leads, Body 11.5x11.5mm, Pitch 1.27mm, IPC High Density)
footprint P-28_M (Leaded Chip Carrier, 28-Leads, Body 11.5x11.5mm, Pitch 1.27mm, IPC Low Density)
pins: 1 DB2 (io) "Data I/O.", 2 DB1 (io) "Data I/O.", 3 DB0 (io) "DB0 is LSB.", 4 VDD (power) "Positive Supply for Analog Circuitry. This is +15 V nominal.", 5 VOUT (out) "DAC Output Voltage.", 6 RIN (in) "Input to Summing Resistor of DAC Output Amplifier. This is used to select output voltage ranges. See Table 6.", 7 VREF+ (in) "VREF+ Input. The DAC is specified for VREF+ = +5 V.", 8 VREF- (in) "VREF- Input. For unipolar operation connect VREF- to 0 V, and for bipolar operation connect it to -5 V. The device is specified for both conditions.", 9 VSS (power) "Negative Supply for the Analog Circuitry. This is -15 V nominal", 10 DB15 (io) "DB15 is MSB.", 11 DB14 (io) "Data I/O.", 12 DB13 (io) "Data I/O.", 13 DB12 (io) "Data I/O.", 14 DB11 (io) "Data I/O.", 15 DB10 (io) "Data I/O.", 16 DB9 (io) "Data I/O.", 17 DB8 (io) "Data I/O.", 18 DB7 (io) "Data I/O.", 19 DB6 (io) "Data I/O.", 20 DGND (power) "Ground for Digital Circuitry.", 21 VCC (power) "Positive Supply for Digital Circuitry. This is +5 V nominal.", 22 R/~{W} (in) "R/W\ Input. This pin can be used to load data to the DAC or to read back the DAC latch contents.", 23 ~{CS} (in) "Chip Select Input. This pin selects the device.", 24 ~{CLR} (in) "Clear Input. The DAC can be cleared to 000...000 or 100...000. See Table 7.", 25 ~{LDAC} (in) "Asynchronous Load Input to DAC.", 26 DB5 (io) "Data I/O.", 27 DB4 (io) "Data I/O.", 28 DB3 (io) "Data I/O."

## AD7846BP
designator U?
Single 16-Bit LC2MOS Voltage Output Digital-to-Analog Converter, -40 to +85 degC, P-28, Tube; Generic Part Number: AD7846; Manufacturer: Analog Devices; PartNumber: AD7846BP; # DAC Outputs: 1; Max V+: 15.75V; Op Pwr Diss: 155mW; Resolution (Bits): 16; Settling Time: 7µs; Single Supply: No; DatasheetVersion: Rev.G; PackageVersion: 042508-A; PackageReference: P-28; PackageDescription: 28-Lead Plastic Leaded Chip Carrier [PLCC]; Supplier 1: Digi-Key; Supplier Part Number 1: AD7846BP-ND; Supplier 2: Mouser; Supplier Part Number 2: 584-AD7846BP; Packing: Tube; RoHS: N; Mounting Technology: Surface Mount; Code_JEDEC: MO-047-AB; ComponentLink1Description: Manufacturer URL; ComponentLink1URL: http://www.analog.com/en/index.html; ComponentLink2Description: Datasheet; ComponentLink2URL: http://www.analog.com/static/imported-files/data_sheets/AD7846.pdf; ComponentLink3Description: Package Specification; ComponentLink3URL: http://www.analog.com/static/imported-files/packages/PKG_PDF/PLCC(P)/P_28.pdf; ComponentLink4Description: Product URL; ComponentLink4URL: http://www.analog.com/en/digital-to-analog-converters/da-converters/ad7846/products/product.html
footprint P-28_N (Leaded Chip Carrier, 28-Leads, Body 11.5x11.5mm, Pitch 1.27mm, IPC Medium Density)
footprint P-28_L (Leaded Chip Carrier, 28-Leads, Body 11.5x11.5mm, Pitch 1.27mm, IPC High Density)
footprint P-28_M (Leaded Chip Carrier, 28-Leads, Body 11.5x11.5mm, Pitch 1.27mm, IPC Low Density)
pins: 1 DB2 (io) "Data I/O.", 2 DB1 (io) "Data I/O.", 3 DB0 (io) "DB0 is LSB.", 4 VDD (power) "Positive Supply for Analog Circuitry. This is +15 V nominal.", 5 VOUT (out) "DAC Output Voltage.", 6 RIN (in) "Input to Summing Resistor of DAC Output Amplifier. This is used to select output voltage ranges. See Table 6.", 7 VREF+ (in) "VREF+ Input. The DAC is specified for VREF+ = +5 V.", 8 VREF- (in) "VREF- Input. For unipolar operation connect VREF- to 0 V, and for bipolar operation connect it to -5 V. The device is specified for both conditions.", 9 VSS (power) "Negative Supply for the Analog Circuitry. This is -15 V nominal", 10 DB15 (io) "DB15 is MSB.", 11 DB14 (io) "Data I/O.", 12 DB13 (io) "Data I/O.", 13 DB12 (io) "Data I/O.", 14 DB11 (io) "Data I/O.", 15 DB10 (io) "Data I/O.", 16 DB9 (io) "Data I/O.", 17 DB8 (io) "Data I/O.", 18 DB7 (io) "Data I/O.", 19 DB6 (io) "Data I/O.", 20 DGND (power) "Ground for Digital Circuitry.", 21 VCC (power) "Positive Supply for Digital Circuitry. This is +5 V nominal.", 22 R/~{W} (in) "R/W\ Input. This pin can be used to load data to the DAC or to read back the DAC latch contents.", 23 ~{CS} (in) "Chip Select Input. This pin selects the device.", 24 ~{CLR} (in) "Clear Input. The DAC can be cleared to 000...000 or 100...000. See Table 7.", 25 ~{LDAC} (in) "Asynchronous Load Input to DAC.", 26 DB5 (io) "Data I/O.", 27 DB4 (io) "Data I/O.", 28 DB3 (io) "Data I/O."

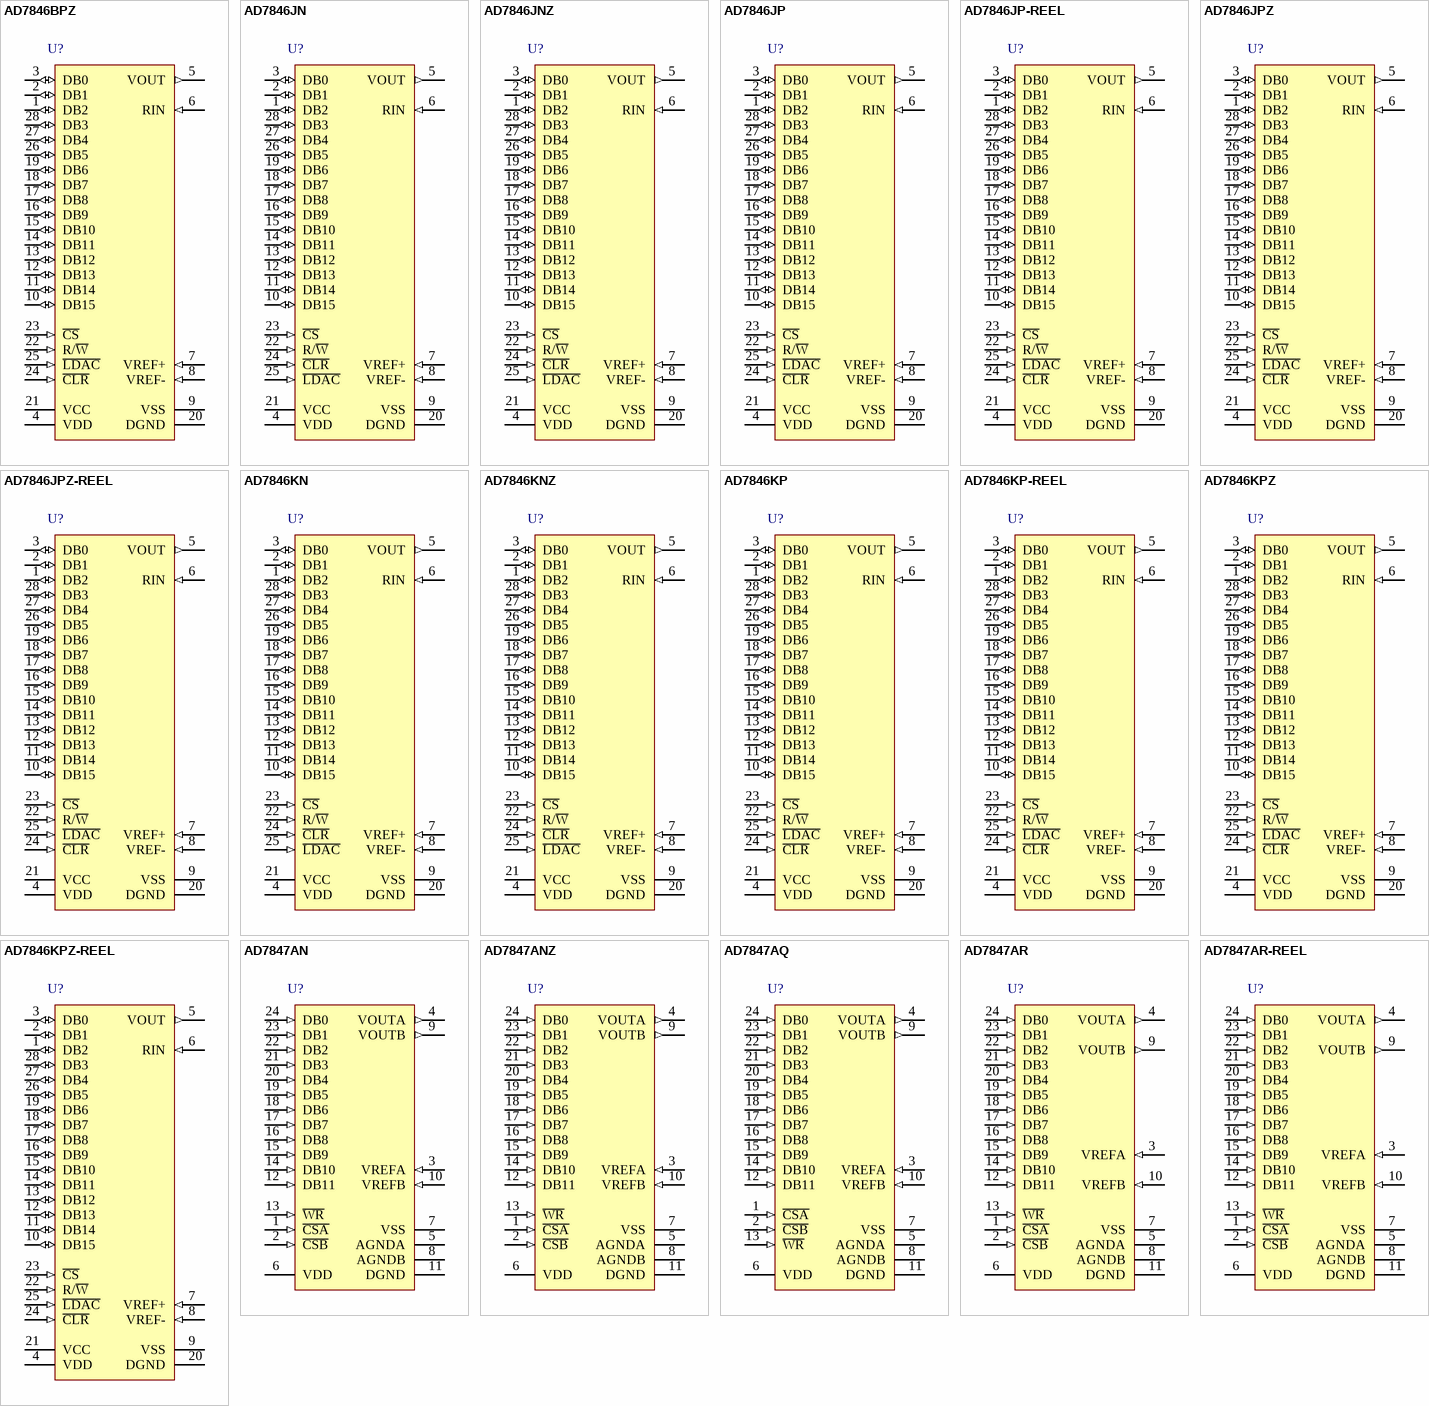
[diagram p78: symbols AD7846BPZ to AD7847AR-REEL]